# Altium schematic symbol library PiParts.SchLib: 6 symbols
Pins are listed as number, name and electrical type; pins without a type are passive.

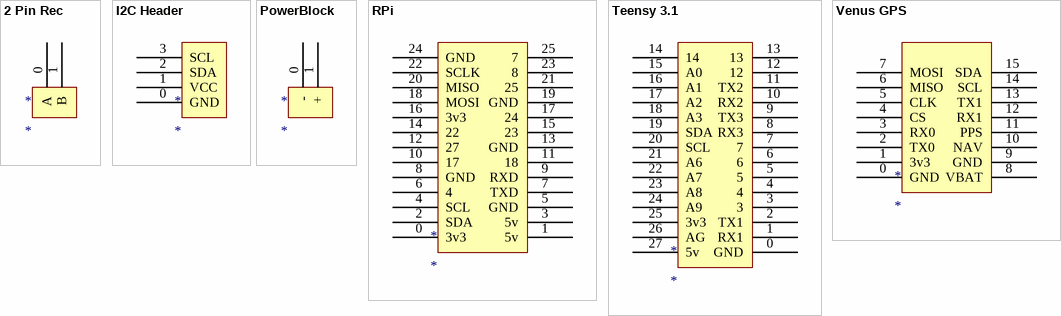
[diagram p0: symbols 2 Pin Rec to Venus GPS]

## 2 Pin Rec
designator *
footprint 2 Pin Rec
pins: 0 A, 1 B

## I2C Header
designator *
footprint I2C Header
pins: 0 GND, 1 VCC, 2 SDA, 3 SCL

## PowerBlock
designator *
footprint PowerBlock
pins: 0 -, 1 +

## RPi
designator *
footprint PIOutline
pins: 0 3v3, 1 5v, 2 SDA, 3 5v, 4 SCL, 5 GND, 6 4, 7 TXD, 8 GND, 9 RXD, 10 17, 11 18, 12 27, 13 GND, 14 22, 15 23, 16 3v3, 17 24, 18 MOSI, 19 GND, 20 MISO, 21 25, 22 SCLK, 23 8, 24 GND, 25 7

## Teensy 3.1
designator *
footprint TEENSY3.1
pins: 0 GND, 1 RX1, 2 TX1, 3, 4, 5, 6, 7, 8 RX3, 9 TX3, 10 RX2, 11 TX2, 12, 13, 14, 15 A0, 16 A1, 17 A2, 18 A3, 19 SDA, 20 SCL, 21 A6, 22 A7, 23 A8, 24 A9, 25 3v3, 26 AG, 27 5v

## Venus GPS
designator *
footprint VENUSGPS
pins: 0 GND, 1 3v3, 2 TX0, 3 RX0, 4 CS, 5 CLK, 6 MISO, 7 MOSI, 8 VBAT, 9 GND, 10 NAV, 11 PPS, 12 RX1, 13 TX1, 14 SCL, 15 SDA